# EAGLE library part CH340G (library angrypig7-IC)
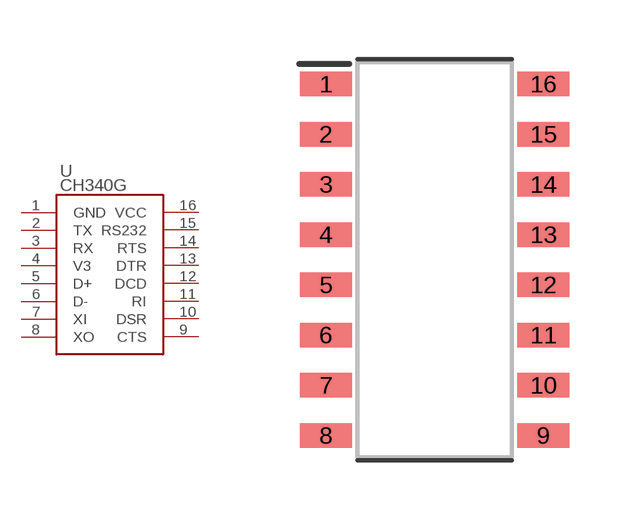
[diagram p5: symbol with the pads of SOP-16_150MIL; footprint SOP-16_150MIL]

Designator prefix U

## CH340G  [SOP-16_150MIL]
1  GND
2  TX
3  RX
4  V3
5  D+
6  D-
7  XI
8  XO
9  CTS
10  DSR
11  RI
12  DCD
13  DTR
14  RTS
15  RS232
16  VCC

## Footprint SOP-16_150MIL (pad centres in mm)
16-SOIC, 1.27 mm pitch, 6.00 mm span, 10.00 X 3.90 X 1.80 mm body 16-pin SOIC package with 1.27 mm pitch, 6.00 mm span with body size 10.00 X 3.90 X 1.80 mm
smd 1.312 x 0.622: 1 -2.75,4.445; 2 -2.75,3.175; 3 -2.75,1.905; 4 -2.75,0.635; 5 -2.75,-0.635; 6 -2.75,-1.905; 7 -2.75,-3.175; 8 -2.75,-4.445; 9 2.75,-4.445; 10 2.75,-3.175; 11 2.75,-1.905; 12 2.75,-0.635; 13 2.75,0.635; 14 2.75,1.905; 15 2.75,3.175; 16 2.75,4.445